# Altium schematic symbol library FK7B0M1-VBT6模块-原理图库.SchLib: 2 symbols
Pins are listed as number, name and electrical type; pins without a type are passive.

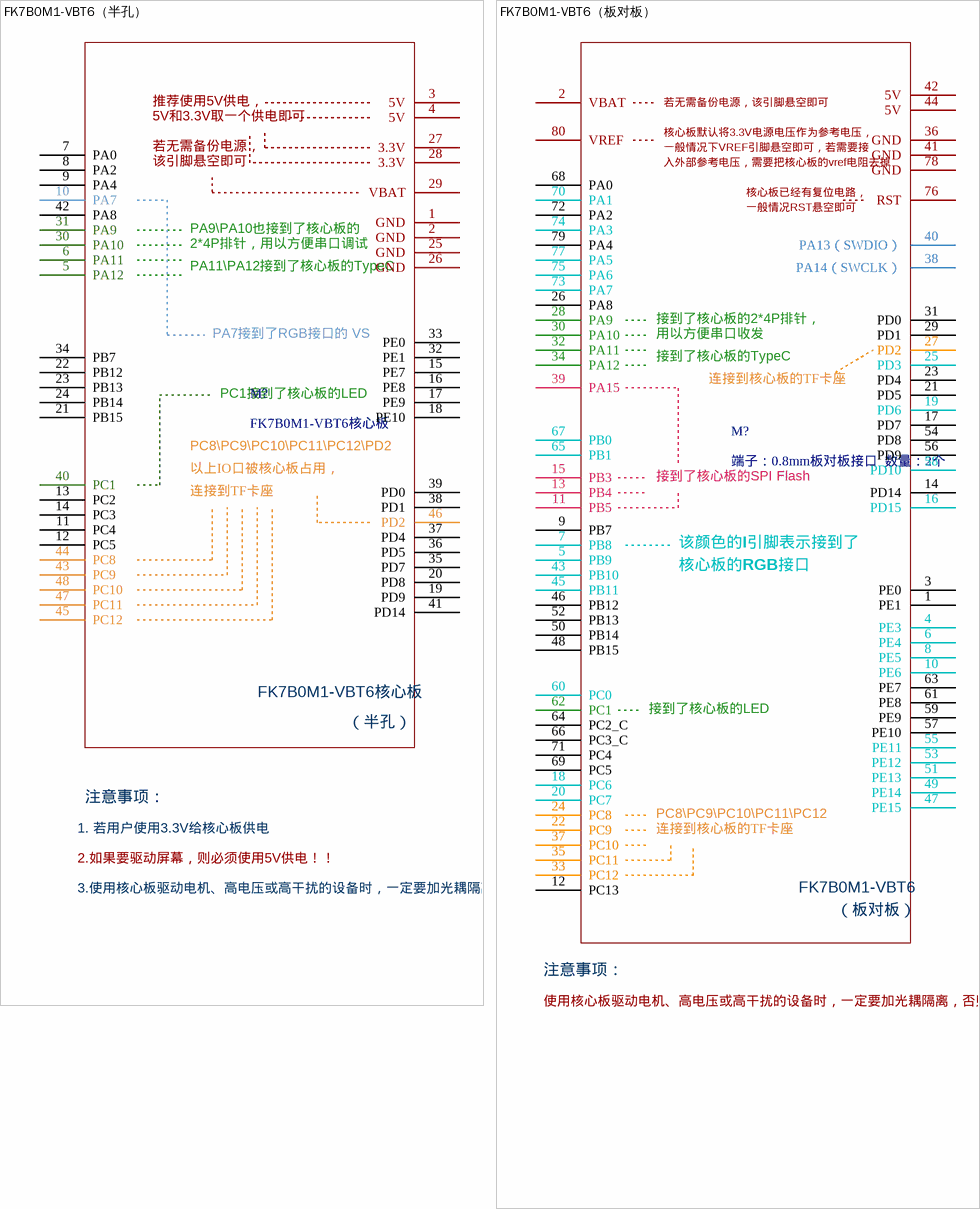
[diagram p0: symbols FK7B0M1-VBT6（半孔） to FK7B0M1-VBT6（板对板）]

## FK7B0M1-VBT6（半孔）
designator M?, comment FK7B0M1-VBT6核心板
footprint FK750M3-VBT6直插
footprint FK750M3-VBT6半孔贴装
pins: 1 GND, 2 GND, 3 5V, 4 5V, 5 PA12, 6 PA11, 7 PA0, 8 PA2, 9 PA4, 10 PA7, 11 PC4, 12 PC5, 13 PC2, 14 PC3, 15 PE7, 16 PE8, 17 PE9, 18 PE10, 19 PD9, 20 PD8, 21 PB15, 22 PB12, 23 PB13, 24 PB14, 25 GND, 26 GND, 27 3.3V, 28 3.3V, 29 VBAT, 30 PA10, 31 PA9, 32 PE1, 33 PE0, 34 PB7, 35 PD7, 36 PD5, 37 PD4, 38 PD1, 39 PD0, 40 PC1, 41 PD14, 42 PA8, 43 PC9, 44 PC8, 45 PC12, 46 PD2, 47 PC11, 48 PC10
text: 推荐使用5V供电，; 5V和3.3V取一个供电即可; 若无需备份电源，; 该引脚悬空即可; PA9\PA10也接到了核心板的; 2*4P排针，用以方便串口调试; PA11\PA12接到了核心板的TypeC; PA7接到了RGB接口的 VS; PC1接到了核心板的LED; PC8\PC9\PC10\PC11\PC12\PD2; 以上IO口被核心板占用，; 连接到TF卡座; （半孔）; 注意事项：; 1. 若用户使用3.3V给核心板供电; 2.如果要驱动屏幕，则必须使用5V供电！！; 3.使用核心板驱动电机、高电压或高干扰的设备时，一定要加光耦隔离，否则很容易损坏单片机！！！

## FK7B0M1-VBT6（板对板）
designator M?, comment 端子：0.8mm板对板接口  数量：2个
品牌：一个核心板需要2个端子
footprint FK7B0M1-VBT6（板对板）
pins: 1 PE1, 2 VBAT, 3 PE0, 4 PE3, 5 PB9, 6 PE4, 7 PB8, 8 PE5, 9 PB7, 10 PE6, 11 PB5, 12 PC13, 13 PB4, 14 PD14, 15 PB3, 16 PD15, 17 PD7, 18 PC6, 19 PD6, 20 PC7, 21 PD5, 22 PC9, 23 PD4, 24 PC8, 25 PD3, 26 PA8, 27 PD2, 28 PA9, 29 PD1, 30 PA10, 31 PD0, 32 PA11, 33 PC12, 34 PA12, 35 PC11, 36 GND, 37 PC10, 38 PA14（SWCLK）, 39 PA15, 40 PA13（SWDIO）, 41 GND, 42 5V, 43 PB10, 44 5V, 45 PB11, 46 PB12, 47 PE15, 48 PB15, 49 PE14, 50 PB14, 51 PE13, 52 PB13, 53 PE12, 54 PD8, 55 PE11, 56 PD9, 57 PE10, 58 PD10, 59 PE9, 60 PC0, 61 PE8, 62 PC1, 63 PE7, 64 PC2_C, 65 PB1, 66 PC3_C, 67 PB0, 68 PA0, 69 PC5, 70 PA1, 71 PC4, 72 PA2, 73 PA7, 74 PA3, 75 PA6, 76 RST, 77 PA5, 78 GND, 79 PA4, 80 VREF
text: 若无需备份电源，该引脚悬空即可; 核心板默认将3.3V电源电压作为参考电压，; 一般情况下VREF引脚悬空即可，若需要接; 入外部参考电压，需要把核心板的vref电阻去掉; 核心板已经有复位电路，; 一般情况RST悬空即可; 接到了核心板的2*4P排针，; 用以方便串口收发; 接到了核心板的TypeC; 连接到核心板的TF卡座; 接到了核心板的SPI Flash; 该颜色的I引脚表示接到了; 核心板的RGB接口; 接到了核心板的LED; PC8\PC9\PC10\PC11\PC12; FK7B0M1-VBT6; （板对板）; 注意事项：; 使用核心板驱动电机、高电压或高干扰的设备时，一定要加光耦隔离，否则很容易损坏单片机！！！